# EAGLE library part P82B96 (library texas)
DUAL BIDIRECTIONAL BUS BUFFER
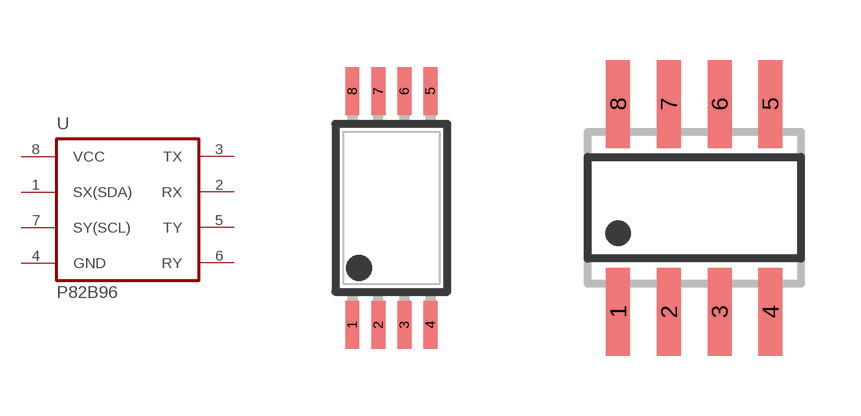
[diagram p31: symbol with the pads of TSSOP8; footprints TSSOP8, SO08]

Designator prefix U

## P82B96PW  [TSSOP8]
1  SX(SDA)
2  RX
3  TX
4  GND  pwr
5  TY
6  RY
7  SY(SCL)
8  VCC  pwr

## P82B96D  [SO08]
Pads as for TSSOP8

## P82B96P  [DIL08]
Pads as for TSSOP8

## Footprint TSSOP8 (pad centres in mm)
Thin Shrink Small Outline Plastic 8
smd 0.35 x 1.2: 1 -0.975,-2.925; 2 -0.325,-2.925; 3 0.325,-2.925; 4 0.975,-2.925; 5 0.975,2.925; 6 0.325,2.925; 7 -0.325,2.925; 8 -0.975,2.925

## Footprint SO08 (pad centres in mm)
SMALL OUTLINE INTEGRATED CIRCUIT body 3.9 mm/JEDEC MS-012AA
smd 0.6 x 2.2: 1 -1.905,-2.6; 2 -0.635,-2.6; 3 0.635,-2.6; 4 1.905,-2.6; 5 1.905,2.6; 6 0.635,2.6; 7 -0.635,2.6; 8 -1.905,2.6

## Footprint DIL08 (pad centres in mm)
Dual In Line Package
drill 0.813 long: 1 -3.81,-3.81; 2 -1.27,-3.81; 3 1.27,-3.81; 4 3.81,-3.81; 5 3.81,3.81; 6 1.27,3.81; 7 -1.27,3.81; 8 -3.81,3.81